# Altium schematic symbol library Fuse_Littelfuse_1210L020WR_eec.SchLib: 1 symbol
Pins are listed as number, name and electrical type; pins without a type are passive.

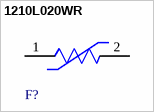
[diagram p0: symbol 1210L020WR]

## 1210L020WR
designator F?  (value not drawn)
pins: 1, 2